# Altium footprint library Virtex.PcbLib: 51 footprints (part 3 of 4)
Each footprint in its own frame and in the unit in brackets; x right, y up, seen from the top. Pads: shape width x height; smd on the part's side, far side on the other; paste and mask are expansions set on the pad; w line width, h text height; cw(c..) or ccw(c..) is an arc to the next point about the centre after c.
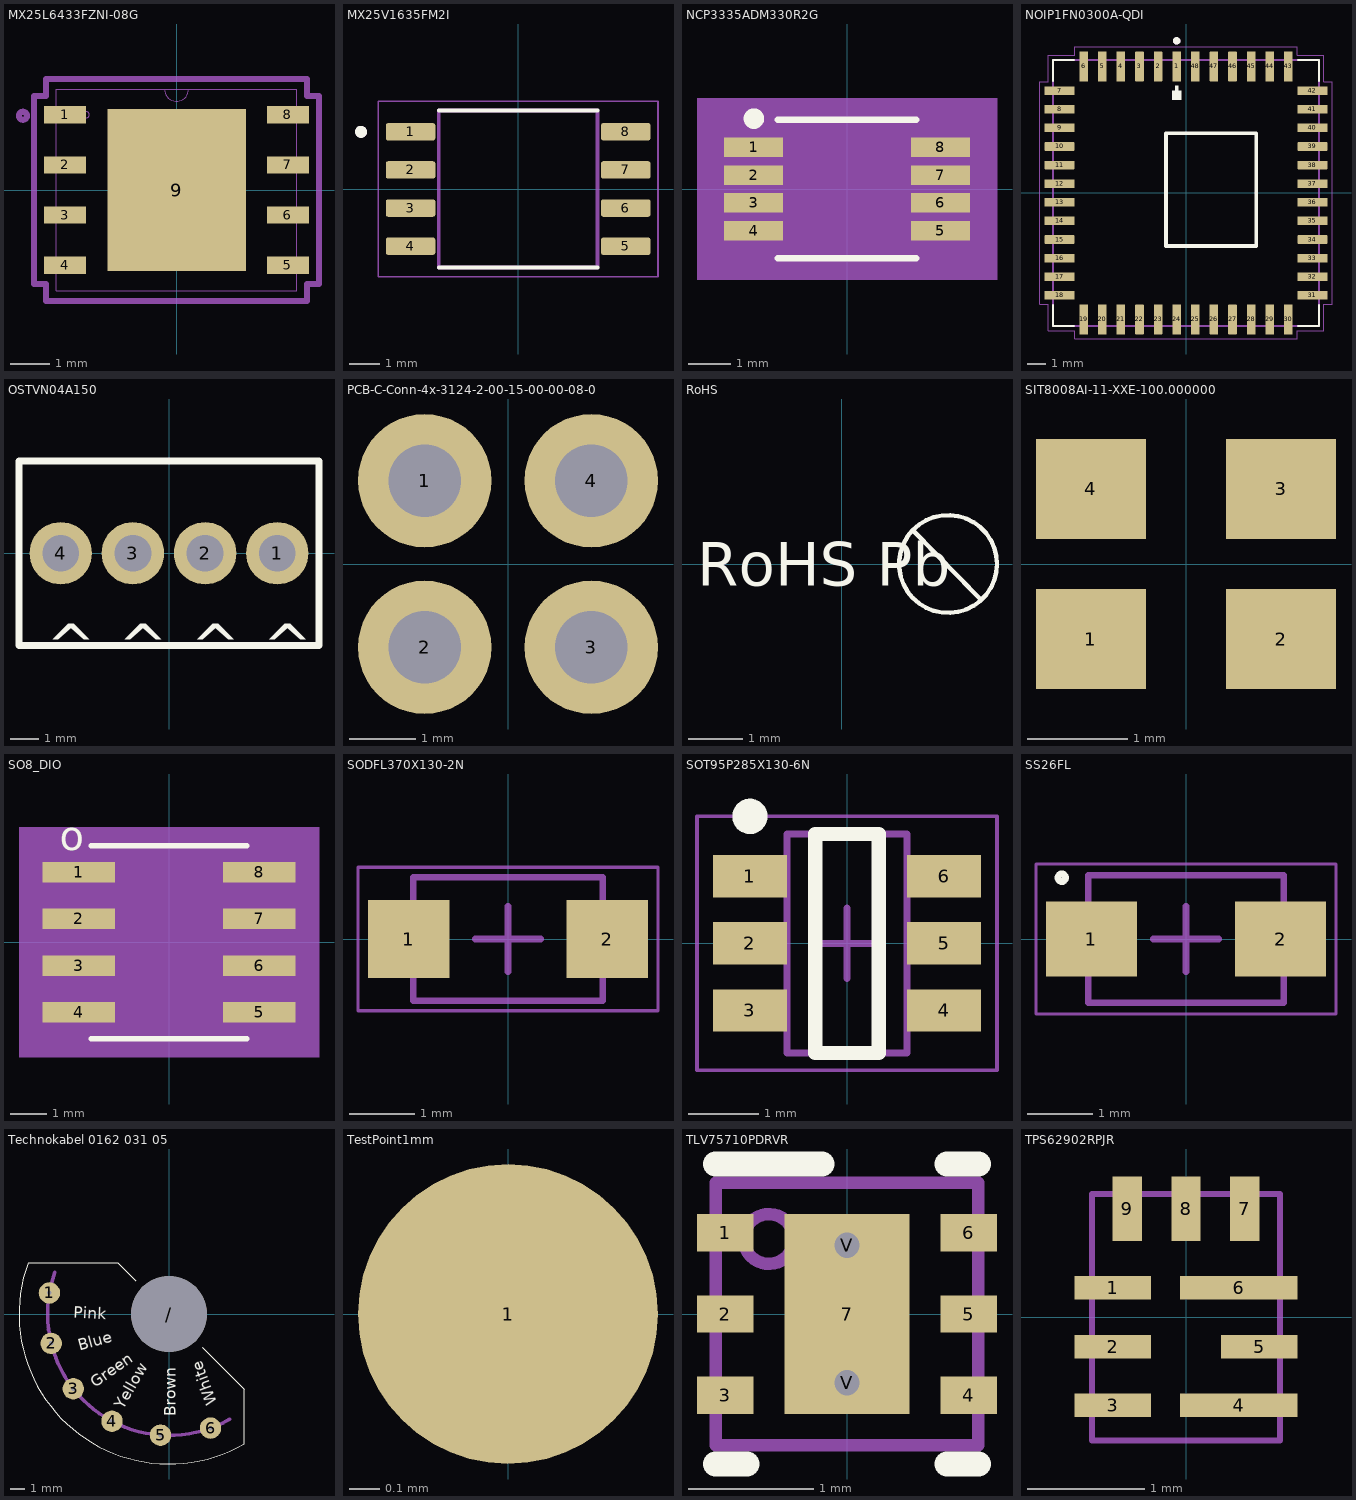
[diagram p2: the footprints below, top view; thin cyan lines are the x and y axes]

## MX25L6433FZNI-08G [mil]
pads (9):
  rect 42x17 smd paste+0 mask+0: 1(-111,75) 2(-111,25) 3(-111,-25) 4(-111,-75) 5(111,-75) 6(111,-25) 7(111,25) 8(111,75)
  rect 138x161 smd paste+0 mask+0: 9(0,0)
Top Paste:
  region: 65.06,-30.77 3.94,-30.77 3.94,-76.56 65.06,-76.56
  region: 65.06,22.9 3.94,22.9 3.94,-22.9 65.06,-22.9
  region: 65.06,76.56 3.94,76.56 3.94,30.77 65.06,30.77
  region: -3.94,-30.77 -65.06,-30.77 -65.06,-76.56 -3.94,-76.56
  region: -3.94,22.9 -65.06,22.9 -65.06,-22.9 -3.94,-22.9
  region: -3.94,76.56 -65.06,76.56 -65.06,30.77 -3.94,30.77
Mechanical 13:
  circle w6: c-153,74 r4
  circle w0: c-90,75 r3
  lines w0: -12,100.5 ccw(c0,100.5) 12,100.5
  lines w1: -120,-100.5 -120,100.5 120,100.5 120,-100.5 -120,-100.5
Mechanical 15:
  lines w6: -142,-93.5 -130,-93.5 -130,-110.5 130,-110.5 130,-93.5 142,-93.5 142,93.5 130,93.5 130,110.5 -130,110.5 -130,93.5 -142,93.5 -142,-93.5
3D body: height 10, standoff 0, extent 0,0 10,10
3D body "MX25L3233FZNI-08Q.step": height 32.09, standoff 0, extent -120,-100.51 120,100.52

## MX25V1635FM2I [mm]
pads (8):
  rrect25% 1.65x0.58 smd: 1(-3.585,1.905) 2(-3.585,0.635) 3(-3.585,-0.635) 4(-3.585,-1.905) 5(3.585,-1.905) 6(3.585,-0.635) 7(3.585,0.635) 8(3.585,1.905)
Top Overlay:
  circle w0.2: c-5.235,1.905 r0.1
  lines w0.127: -2.645,-2.62 2.645,-2.62 ; -2.645,2.62 2.645,2.62
Mechanical 13:
  circle w0.2: c-5.235,1.905 r0.1
  lines w0.127: -2.645,-2.62 2.645,-2.62 2.645,2.62 -2.645,2.62 -2.645,-2.62
Mechanical 15:
  lines w0.05: -4.66,-2.925 4.66,-2.925 4.66,2.925 -4.66,2.925 -4.66,-2.925
3D body "MX25V1635FM2I.step": height 1.95, standoff 0, extent -3.9,-2.64 3.95,2.64

## NCP3335ADM330R2G [mil]
pads (8):
  rect 54.5x18 smd paste+0 mask+0: 1(-86.25,38.39) 2(-86.25,12.8) 3(-86.25,-12.8) 4(-86.25,-38.39) 5(86.25,-38.39) 6(86.25,-12.8) 7(86.25,12.8) 8(86.25,38.39)
Top Overlay:
  circle w10: c-86,65 r4.47
  lines w6: -64,-64 64,-64 ; -64,64 64,64
Bottom Courtyard:
  region: 138.5,-84 -138.5,-84 -138.5,84 138.5,84
Mechanical 13:
  lines w0: -12,59 ccw(c0,59) 12,59
  lines w1: -99.5,-46.39 -59,-46.39 -59,-30.39 -99.5,-30.39 -99.5,-46.39 ; -99.5,-20.8 -59,-20.8 -59,-4.8 -99.5,-4.8 -99.5,-20.8 ; -99.5,4.8 -59,4.8 -59,20.8 -99.5,20.8 -99.5,4.8 ; -99.5,30.39 -59,30.39 -59,46.39 -99.5,46.39 -99.5,30.39 ; -59,-59 -59,59 59,59 59,-59 -59,-59 ; 59,-46.39 99.5,-46.39 99.5,-30.39 59,-30.39 59,-46.39 ; 59,-20.8 99.5,-20.8 99.5,-4.8 59,-4.8 59,-20.8 ; 59,4.8 99.5,4.8 99.5,20.8 59,20.8 59,4.8 ; 59,30.39 99.5,30.39 99.5,46.39 59,46.39 59,30.39
  text "*" at -56.5,6 h50
Mechanical 15:
  region: -69,-57.39 -123.5,-57.39 -123.5,57.39 -69,57.39 -69,69 69,69 69,57.39 123.5,57.39 123.5,-57.39 69,-57.39 69,-69 -69,-69
  lines w6: -123.5,-57.39 -69,-57.39 -69,-69 69,-69 69,-57.39 123.5,-57.39 123.5,57.39 69,57.39 69,69 -69,69 -69,57.39 -123.5,57.39 -123.5,-57.39
3D body "MICRO8_3P10X3P10_ONS.step": height 43.11, standoff 0, extent -99.49,-59.02 99.49,59.02

## NOIP1FN0300A-QDI [mm]
pads (48):
  rrect12% 0.47x1.63 smd: 1(-0.508,6.905) 2(-1.524,6.905) 3(-2.54,6.905) 4(-3.556,6.905) 5(-4.572,6.905) 6(-5.588,6.905) 19(-5.588,-6.905) 20(-4.572,-6.905) 21(-3.556,-6.905) 22(-2.54,-6.905) 23(-1.524,-6.905) 24(-0.508,-6.905) 25(0.508,-6.905) 26(1.524,-6.905) 27(2.54,-6.905) 28(3.556,-6.905) 29(4.572,-6.905) 30(5.588,-6.905) 43(5.588,6.905) 44(4.572,6.905) 45(3.556,6.905) 46(2.54,6.905) 47(1.524,6.905) 48(0.508,6.905)
  rrect12% 1.63x0.47 smd: 7(-6.905,5.588) 8(-6.905,4.572) 9(-6.905,3.556) 10(-6.905,2.54) 11(-6.905,1.524) 12(-6.905,0.508) 13(-6.905,-0.508) 14(-6.905,-1.524) 15(-6.905,-2.54) 16(-6.905,-3.556) 17(-6.905,-4.572) 18(-6.905,-5.588) 31(6.905,-5.588) 32(6.905,-4.572) 33(6.905,-3.556) 34(6.905,-2.54) 35(6.905,-1.524) 36(6.905,-0.508) 37(6.905,0.508) 38(6.905,1.524) 39(6.905,2.54) 40(6.905,3.556) 41(6.905,4.572) 42(6.905,5.588)
Top Overlay:
  circle w0.2: c-0.508,8.306 r0.1
  rectangle: -0.762,5.08 -0.254,5.588
  rectangle: -0.608,5.486 -0.4,5.867
  lines w0.127: -7.26,-6.127 -7.26,-7.26 -6.127,-7.26 ; -7.26,6.127 -7.26,7.26 -6.127,7.26 ; 6.127,-7.26 7.26,-7.26 7.26,-6.127 ; 6.127,7.26 7.26,7.26 7.26,6.127
  lines w0.2: -1.088,-2.892 3.828,-2.892 3.828,3.252 -1.088,3.252 -1.088,-2.892
Mechanical 13:
  circle w0.2: c-0.508,8.306 r0.1
  lines w0.127: -7.26,-7.26 7.26,-7.26 7.26,7.26 -7.26,7.26 -7.26,-7.26
Mechanical 15:
  lines w0.05: -7.97,-6.08 -7.97,6.08 -7.51,6.08 -7.51,7.51 -6.08,7.51 -6.08,7.97 6.08,7.97 6.08,7.51 7.51,7.51 7.51,6.08 7.97,6.08 7.97,-6.08 7.51,-6.08 7.51,-7.51 6.08,-7.51 6.08,-7.97 -6.08,-7.97 -6.08,-7.51 -7.51,-7.51 -7.51,-6.08 -7.97,-6.08
3D body "NOIP1FN0300A-QDI.step": height 2.32, standoff 0.04, extent -7.11,-7.11 7.11,7.11

## OSTVN04A150 [mm]
pads (4):
  round 2.2 hole 1.3: 1(3.81,0) 2(1.27,0) 3(-1.27,0) 4(-3.81,0)
Top Overlay:
  lines w0.254: -5.28,-3.25 5.28,-3.25 5.28,3.25 -5.28,3.25 -5.28,-3.25
  text "^" at -1.778,-4.008 h1.52
  text "^" at 0.762,-4.008 h1.52
  text "^" at 3.302,-4.008 h1.52
  text "^" at -4.318,-4.008 h1.52
3D body "OSTVN04A150.step": height 8.51, standoff -3.49, extent -5.28,-3.264 5.28,3.236

## PCB-C-Conn-4x-3124-2-00-15-00-00-08-0 [mm]
pads (4):
  round 2 hole 1.09: 1(-1.25,1.25) 2(-1.25,-1.25) 3(1.25,-1.25) 4(1.25,1.25)
3D body "3124-2-00-15-00-00-08-0.step": height 22.9, standoff -2.04, extent -2.137,0.368 -0.363,2.139
3D body "3124-2-00-15-00-00-08-0.step": height 22.9, standoff -2.04, extent 0.363,0.368 2.137,2.139
3D body "3124-2-00-15-00-00-08-0.step": height 22.9, standoff -2.04, extent 0.363,-2.132 2.137,-0.361
3D body "3124-2-00-15-00-00-08-0.step": height 22.9, standoff -2.04, extent -2.137,-2.132 -0.363,-0.361

## RoHS [mm]
Top Overlay:
  circle w0.08: c1.95,0 r0.9
  lines w0.08: 1.31,0.61 2.55,-0.65
  text "RoHS Pb" at -2.666,-0.4 h0.8

## SIT8008AI-11-XXE-100.000000 [mm]
pads (4):
  rect 1.1x1 smd paste+0 mask+0: 1(-0.95,-0.75) 2(0.95,-0.75) 3(0.95,0.75) 4(-0.95,0.75)
3D body "SIT8008AI-11-XXE-100.000000.step": height 0.75, standoff -0.01, extent -1.25,-1 1.25,1

## SO8_DIO [mil]
pads (8):
  rect 78x22 smd paste+0 mask+0: 1(-97,75) 2(-97,25) 3(-97,-25) 4(-97,-75) 5(97,-75) 6(97,-25) 7(97,25) 8(97,75)
Top Overlay:
  lines w6: -83.5,-103.5 83.5,-103.5 ; -83.5,103.5 83.5,103.5
  text "o" at -117,99 h31.5
Bottom Courtyard:
  region: 161,-123.5 -161,-123.5 -161,123.5 161,123.5
Mechanical 13:
  lines w0: -12,98.5 ccw(c0,98.5) 12,98.5
  lines w1: -122,-85 -78.5,-85 -78.5,-65 -122,-65 -122,-85 ; -122,-35 -78.5,-35 -78.5,-15 -122,-15 -122,-35 ; -122,15 -78.5,15 -78.5,35 -122,35 -122,15 ; -122,65 -78.5,65 -78.5,85 -122,85 -122,65 ; -78.5,-98.5 -78.5,98.5 78.5,98.5 78.5,-98.5 -78.5,-98.5 ; 78.5,-85 122,-85 122,-65 78.5,-65 78.5,-85 ; 78.5,-35 122,-35 122,-15 78.5,-15 78.5,-35 ; 78.5,15 122,15 122,35 78.5,35 78.5,15 ; 78.5,65 122,65 122,85 78.5,85 78.5,65
  text "*" at -76,45.5 h50
Mechanical 15:
  region: -88.5,-96 -146,-96 -146,96 -88.5,96 -88.5,108.5 88.5,108.5 88.5,96 146,96 146,-96 88.5,-96 88.5,-108.5 -88.5,-108.5
  lines w6: -146,-96 -88.5,-96 -88.5,-108.5 88.5,-108.5 88.5,-96 146,-96 146,96 88.5,96 88.5,108.5 -88.5,108.5 -88.5,96 -146,96 -146,-96
3D body "SO8_DIO.step": height 67.09, standoff 0, extent -122.01,-98.5 122.01,98.5

## SODFL370X130-2N [mm] "SODFL, 2-Leads, Body 1.75x3.70mm, IPC Medium Density"
height 1.3
pads (2):
  rect 1.25x1.2 smd: 1(-1.525,0) 2(1.525,0)
Top Courtyard:
  lines w0.05: -2.3,-1.1 2.3,-1.1 2.3,1.1 -2.3,1.1 -2.3,-1.1
  lines w0.1: -0.5,0 0.5,0 ; 0,-0.5 0,0.5
Top Assembly:
  lines w0.1: -1.45,-0.95 1.45,-0.95 1.45,0.95 -1.45,0.95 -1.45,-0.95
3D body "SODFL370X130-2N.step": height 1.3, standoff 0, extent -1.85,-0.95 1.85,0.95

## SOT95P285X130-6N [mm] "SOT23, 6-Leads, Body 3.00x2.85mm, Pitch 0.95mm, IPC Medium Density"
height 1.3
pads (6):
  rect 1.05x0.6 smd: 1(-1.375,0.95) 2(-1.375,0) 3(-1.375,-0.95) 4(1.375,-0.95) 5(1.375,0) 6(1.375,0.95)
Top Overlay:
  circle w0.25: c-1.375,1.8 r0.125
  lines w0.2: -0.45,-1.55 0.45,-1.55 0.45,1.55 -0.45,1.55 -0.45,-1.55
Top Courtyard:
  lines w0.05: -2.125,-1.8 -2.125,1.8 2.125,1.8 2.125,-1.8 -2.125,-1.8
  lines w0.1: -0.5,0 0.5,0 ; 0,-0.5 0,0.5
Top Assembly:
  lines w0.1: -0.85,-1.55 -0.85,1.55 0.85,1.55 0.85,-1.55 -0.85,-1.55
3D body "SOT95P285X130-6N.step": height 1.3, standoff 0, extent -1.5,-1.55 1.5,1.55

## SS26FL [mm] "SODFL, 2-Leads, Body 1.73x3.60mm, IPC Medium Density"
height 1.08
pads (2):
  rect 1.4x1.15 smd: 1(-1.45,0) 2(1.45,0)
Top Overlay:
  circle w0.1: c-1.905,0.94 r0.059
Top Courtyard:
  lines w0.05: -2.3,-1.15 -2.3,1.15 2.3,1.15 2.3,-1.15 -2.3,-1.15
  lines w0.1: -0.5,0 0.5,0 ; 0,-0.5 0,0.5
Top Assembly:
  lines w0.1: -1.5,-0.975 -1.5,0.975 1.5,0.975 1.5,-0.975 -1.5,-0.975
3D body "SODFL360X108-2N.step": height 1.08, standoff 0, extent -1.8,-0.975 1.8,0.975

## Technokabel 0162 031 05 [mm]
pads (7):
  round 1.5 hole 0.32: 1(-8.371,1.476) 2(-8.248,-2.056) 3(-6.698,-5.233) 4(-3.991,-7.505) 5(-0.593,-8.479) 6(2.907,-7.987)
  round 5.3 hole 5.3 unplated: /(0,0)
Top Overlay:
  lines w0.08: -2.337,2.337 -3.591,3.591 -9.867,3.591 ccw(c0,0) 5.25,-9.093 5.25,-5.25 2.324,-2.324
  text "Pink" at -6.693,-0.253 h0.8
  text "White" at 3.375,-6.221 h0.8
  text "Brown" at 0.472,-7.169 h0.8
  text "Green" at -5.16,-5.183 h0.8
  text "Blue" at -6.255,-2.569 h0.8
  text "Yellow" at -3.189,-6.742 h0.8
Mechanical 15:
  lines w0.254: -7.987,2.907 ccw(c0,0) 4.25,-7.361

## TestPoint1mm [mm]
pads (1):
  round 1 smd: 1(0,0)

## TLV75710PDRVR [mm]
pads (9):
  rect 0.45x0.3 smd paste+0 mask+0: 1(-0.975,0.65) 2(-0.975,0) 3(-0.975,-0.65) 4(0.975,-0.65) 5(0.975,0) 6(0.975,0.65)
  rect 1x1.6 smd paste-0.5 mask+0: 7(0,0)
  round 0.5 hole 0.203 mask+0: V(0,-0.55) V(0,0.55)
Top Overlay:
  lines w0.2: -1.05,-1.2 -0.8,-1.2 ; -1.05,1.2 -0.2,1.2 ; 0.8,-1.2 1.05,-1.2 ; 0.8,1.2 1.05,1.2
Top Paste:
  region: -0.499,-0.761 -0.5,-0.751 -0.5,-0.149 -0.499,-0.139 -0.496,-0.13 -0.492,-0.122 -0.486,-0.114 -0.478,-0.108 -0.47,-0.104 -0.461,-0.101 -0.451,-0.1 0.451,-0.1 0.461,-0.101 0.47,-0.104 0.478,-0.108 0.486,-0.114 0.492,-0.122 0.496,-0.13 0.499,-0.139 0.5,-0.149 0.5,-0.751 0.499,-0.761 0.496,-0.77 0.492,-0.778 0.486,-0.786 0.478,-0.792 0.47,-0.796 0.461,-0.799 0.451,-0.8 -0.451,-0.8 -0.461,-0.799 -0.47,-0.796 -0.478,-0.792 -0.486,-0.786 -0.492,-0.778 -0.496,-0.77
  region: -0.499,0.139 -0.5,0.149 -0.5,0.751 -0.499,0.761 -0.496,0.77 -0.492,0.778 -0.486,0.786 -0.478,0.792 -0.47,0.796 -0.461,0.799 -0.451,0.8 0.451,0.8 0.461,0.799 0.47,0.796 0.478,0.792 0.486,0.786 0.492,0.778 0.496,0.77 0.499,0.761 0.5,0.751 0.5,0.149 0.499,0.139 0.496,0.13 0.492,0.122 0.486,0.114 0.478,0.108 0.47,0.104 0.461,0.101 0.451,0.1 -0.451,0.1 -0.461,0.101 -0.47,0.104 -0.478,0.108 -0.486,0.114 -0.492,0.122 -0.496,0.13
Mechanical 13:
  circle w0.1: c-0.625,0.6 r0.2
  lines w0.1: -1.05,-1.05 1.05,-1.05 1.05,1.05 -1.05,1.05 -1.05,-1.05
3D body: height 0.25, standoff 0, extent 0,0 0.254,0.254
3D body "TLV75710PDRVR.stp": height 0.8, standoff 0, extent -1,-1 1,1

## TPS62902RPJR [mm]
pads (9):
  rrect1% 0.65x0.2 smd: 1(-0.625,0.25) 2(-0.625,-0.25) 3(-0.625,-0.75) 5(0.625,-0.25)
  rrect1% 1x0.2 smd: 4(0.45,-0.75) 6(0.45,0.25)
  rrect1% 0.25x0.55 smd: 7(0.5,0.925) 8(0,0.925) 9(-0.5,0.925)
Mechanical 15:
  lines w0.05: -0.8,-1.05 0.8,-1.05 0.8,1.05 -0.8,1.05 -0.8,-1.05
3D body "TPS62902.stp": height 0.9, standoff 0, extent -0.75,-1 0.75,1